# Altium schematic symbol library MC74VHC1GT08.SchLib: 1 symbol
Pins are listed as number, name and electrical type; pins without a type are passive.

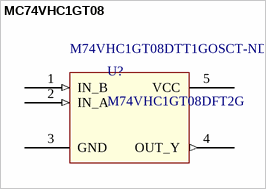
[diagram p0: symbol MC74VHC1GT08]

## MC74VHC1GT08
designator U?, comment M74VHC1GT08DFT2G  Supplier Part Number 1: M74VHC1GT08DTT1GOSCT-ND
AND Gate IC 1 Channel SC-88A (SC-70-5/SOT-353); Supplier 1: Digi-Key; ComponentLink1Description: Datasheet; ComponentLink1URL: https://www.onsemi.com/pub/Collateral/MC74VHC1GT08-D.PDF
footprint SOT-25
pins: 1 IN_B (in), 2 IN_A (in), 3 GND (power), 4 OUT_Y (out), 5 VCC (power)